# Altium footprint library Filters.PcbLib: 2 footprints
Each footprint in its own frame and in the unit in brackets; x right, y up, seen from the top. Pads: shape width x height; smd on the part's side, far side on the other; paste and mask are expansions set on the pad; w line width, h text height; cw(c..) or ccw(c..) is an arc to the next point about the centre after c.
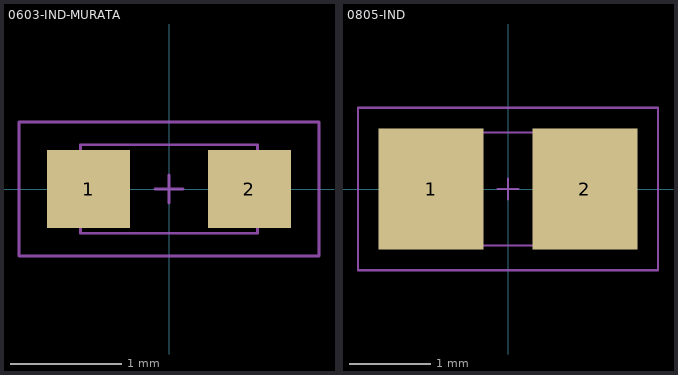
[diagram p0: the footprints below, top view; thin cyan lines are the x and y axes]

## 0603-IND-MURATA [mm]
pads (2):
  rect 0.75x0.7 smd: 1(-0.725,0) 2(0.725,0)
Top Courtyard:
  lines w0.025: -1.354,-0.604 -1.354,0.604 1.354,0.604 1.354,-0.604 -1.354,-0.604
Top Assembly (Mech8):
  lines w0.025: -0.127,0 0.127,0 ; 0,-0.127 0,0.127 ; -0.8,-0.4 -0.8,0.4 0.8,0.4 0.8,-0.4 -0.8,-0.4
3D body "BLM18BD121SN1D.STEP": height 0.96, standoff 0.01, extent -0.8,-0.4 0.8,0.4

## 0805-IND [mm]
pads (2):
  rect 1.3x1.5 smd: 1(-0.95,0) 2(0.95,0)
Top Courtyard:
  lines w0.025: -1.854,-1.004 1.854,-1.004 1.854,1.004 -1.854,1.004 -1.854,-1.004
Top Assembly (Mech8):
  lines w0.025: -0.127,0 0.127,0 ; 0,-0.127 0,0.127 ; -1.1,-0.7 1.1,-0.7 1.1,0.7 -1.1,0.7 -1.1,-0.7
3D body "BLM21PG300SN1D.STEP": height 1.05, standoff 0, extent -1,-0.625 1,0.625